# Altium footprint library MCP23017-SOIC.PcbLib: 1 footprints
Each footprint in its own frame and in the unit in brackets; x right, y up, seen from the top. Pads: shape width x height; smd on the part's side, far side on the other; paste and mask are expansions set on the pad; w line width, h text height; cw(c..) or ccw(c..) is an arc to the next point about the centre after c.
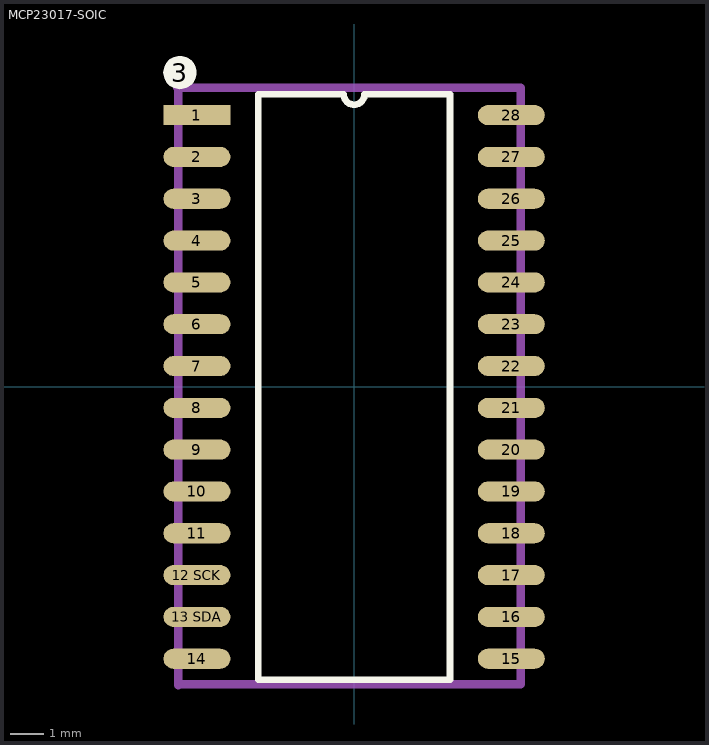
[diagram p0: the footprint, top view; thin cyan lines are the x and y axes]

## MCP23017-SOIC [mm] "https://ww1.microchip.com/downloads/en/devicedoc/20001952c.pdf"
pads (29):
  rect 2x0.6 smd: 1(-4.7,8.125)
  oval 2x0.6 smd: 2(-4.7,6.875) 3(-4.7,5.625) 4(-4.7,4.375) 5(-4.7,3.125) 6(-4.7,1.875) 7(-4.7,0.625) 8(-4.7,-0.625) 9(-4.7,-1.875) 10(-4.7,-3.125) 11(-4.7,-4.375) "13 SDA"(-4.7,-6.875) 14(-4.7,-8.125) 15(4.7,-8.125) 16(4.7,-6.875) 17(4.7,-5.625) 18(4.7,-4.375) 19(4.7,-3.125) 20(4.7,-1.875) 21(4.7,-0.625) 22(4.7,0.625) 23(4.7,1.875) 24(4.7,3.125) 25(4.7,4.375) 26(4.7,5.625) 27(4.7,6.875) 28(4.7,8.125)
  round 1 on Top Overlay: 3(-5.207,9.398)
  oval 2x0.6 smd paste-2539.97: "12 SCK"(-4.7,-5.625)
Top Overlay:
  lines w0.2: -2.865,-8.75 2.865,-8.75 2.865,8.75 0.312,8.75 cw(c0,8.75) -0.312,8.75 -2.865,8.75 -2.865,-8.75
Mechanical 1:
  lines w0.254: -5.283,8.941 4.978,8.941 4.978,-8.89 -5.232,-8.89 -5.258,-8.915 -5.258,8.915
3D body "SO--3DModel-STEP-56544.STEP": height 2.66, standoff 0.01, extent -5.277,-8.95 5.023,8.95